# Altium schematic symbol library WR-PHD_Socket Header_2.54mm.SchLib: 187 symbols (part 2 of 4)
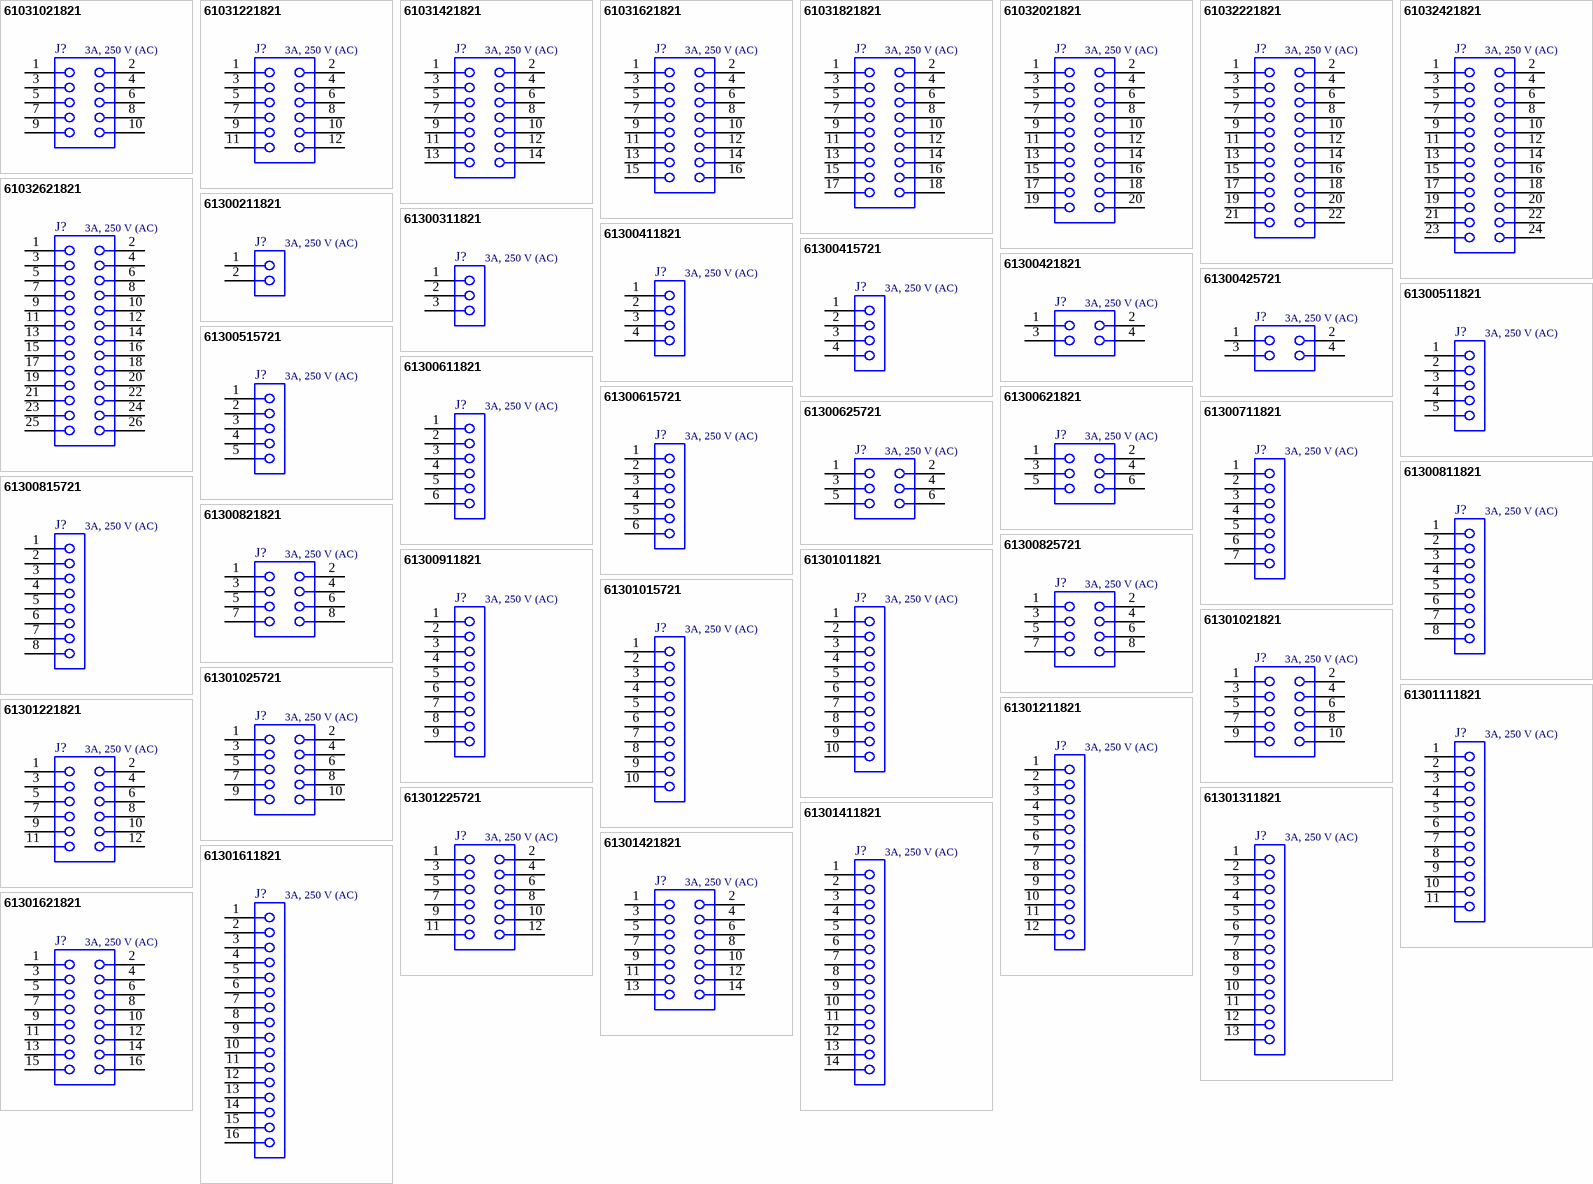
[diagram p6: symbols 61031021821 to 61301621821]

## 61300211821
designator J?, comment 3A, 250 V (AC)
WR-PHD Socket Header, THT, pitch 2.54mm, Single Row, Vertical, 2p; Manufacturer Part Number: 61300211821; Manufacturer: Wurth Elektronik; Pin Number: 2; Working Voltage: 250VAC; Withstanding Voltage: 500VAC; Contact Resistance: 20mOhm; ComponentLink1Description: Datasheet; ComponentLink1URL: https://www.we-online.com/catalog/datasheet/61300211821.pdf; Pitch: 2.54mm; Packaging: Tray; Gender: Socket Header; Rated Current: 3A; Row Number: Single; Orientation: Vertical; Supplier 1 URL: N/A; Supplier 2 URL: N/A; Supplier 3 URL: https://www.thegioiic.com/hang-rao-cai-don-2-54mm-2-chan-1-hang-cao-11-8mm-xuyen-lo; Mount: THT; Operating Temperature Max: + 85 C; Operating Temperature Min: - 25 C; Supplier 1: Mouser; Supplier 1 Part Number: N/A; Supplier 2: Digi-Key; Supplier 2 Part Number: N/A; Supplier 3: thegioiic; Supplier 3 Part Number: N/A; Value: 3A, 250 V (AC); LCSC Part #: N/A
footprint 61300211821
pins: 1, 2

## 61300311821
designator J?, comment 3A, 250 V (AC)
WR-PHD Socket Header, THT, pitch 2.54mm, Single Row, Vertical, 3p; Manufacturer Part Number: 61300311821; Manufacturer: Wurth Elektronik; Pin Number: 3; Working Voltage: 250VAC; Withstanding Voltage: 500VAC; Contact Resistance: 20mOhm; ComponentLink1Description: Datasheet; ComponentLink1URL: https://www.we-online.com/catalog/datasheet/61300311821.pdf; Pitch: 2.54mm; Packaging: Tray; Gender: Socket Header; Rated Current: 3A; Row Number: Single; Orientation: Vertical; Supplier 1 URL: N/A; Supplier 2 URL: N/A; Supplier 3 URL: https://www.thegioiic.com/hang-rao-cai-don-2-54mm-3-chan-1-hang-cao-11-8mm-xuyen-lo; Mount: THT; Operating Temperature Max: + 85 C; Operating Temperature Min: - 25 C; Supplier 1: Mouser; Supplier 1 Part Number: N/A; Supplier 2: Digi-Key; Supplier 2 Part Number: N/A; Supplier 3: thegioiic; Supplier 3 Part Number: N/A; Value: 3A, 250 V (AC); LCSC Part #: N/A
footprint 61300311821
pins: 1, 2, 3

## 61300411821
designator J?, comment 3A, 250 V (AC)
WR-PHD Socket Header, THT, pitch 2.54mm, Single Row, Vertical, 4p; Manufacturer Part Number: 61300411821; Manufacturer: Wurth Elektronik; Pin Number: 4; Working Voltage: 250VAC; Withstanding Voltage: 500VAC; Contact Resistance: 20mOhm; ComponentLink1Description: Datasheet; ComponentLink1URL: https://www.we-online.com/catalog/datasheet/61300411821.pdf; Pitch: 2.54mm; Packaging: Tray; Gender: Socket Header; Rated Current: 3A; Row Number: Single; Orientation: Vertical; Supplier 1 URL: https://www.mouser.vn/ProductDetail/Wurth-Elektronik/61300411821?qs=iLbezkQI%252BsgYrk24CGHgKQ%3D%3D; Supplier 2 URL: N/A; Supplier 3 URL: https://www.thegioiic.com/hang-rao-cai-don-2-54mm-4-chan-1-hang-cao-11-8mm-xuyen-lo; Mount: THT; Operating Temperature Max: + 85 C; Operating Temperature Min: - 25 C; Supplier 1: Mouser; Supplier 1 Part Number: 710-61300411821; Supplier 2: Digi-Key; Supplier 2 Part Number: N/A; Supplier 3: thegioiic; Supplier 3 Part Number: N/A; Value: 3A, 250 V (AC); LCSC Part #: N/A
footprint 61300411821
pins: 1, 2, 3, 4

## 61300415721
designator J?, comment 3A, 250 V (AC)
WR-PHD Socket Header, THT, pitch 2.54mm, Single Row, Vertical, 4p; Manufacturer Part Number: 61300415721; Manufacturer: Wurth Elektronik; Pin Number: 4; Working Voltage: 250VAC; Withstanding Voltage: 500VAC; Contact Resistance: 20mOhm; ComponentLink1Description: Datasheet; ComponentLink1URL: https://www.we-online.com/catalog/datasheet/61300415721.pdf; Pitch: 2.54mm; Packaging: Tube; Gender: Socket Header; Rated Current: 3A; Row Number: Single; Orientation: Vertical; Supplier 1 URL: N/A; Supplier 2 URL: N/A; Supplier 3 URL: N/A; Mount: THT; Operating Temperature Max: + 85 C; Operating Temperature Min: - 25 C; Supplier 1: Mouser; Supplier 1 Part Number: N/A; Supplier 2: Digi-Key; Supplier 2 Part Number: N/A; Supplier 3: thegioiic; Supplier 3 Part Number: N/A; Value: 3A, 250 V (AC); LCSC Part #: N/A
footprint 61300415721
pins: 1, 2, 3, 4

## 61300421821
designator J?, comment 3A, 250 V (AC)
WR-PHD Socket Header, THT, pitch 2.54mm, Dual Row, Vertical, 4p; Manufacturer Part Number: 61300421821; Manufacturer: Wurth Elektronik; Pin Number: 4; Working Voltage: 250VAC; Withstanding Voltage: 500VAC; Contact Resistance: 20mOhm; ComponentLink1Description: Datasheet; ComponentLink1URL: https://www.we-online.com/catalog/datasheet/61300421821.pdf; Pitch: 2.54mm; Packaging: Tray; Gender: Socket Header; Rated Current: 3A; Row Number: Dual; Orientation: Vertical; Supplier 1 URL: https://www.mouser.vn/ProductDetail/Wurth-Elektronik/61300421821?qs=iLbezkQI%252BsjdqRo43Fczjg%3D%3D; Supplier 2 URL: N/A; Supplier 3 URL: https://www.thegioiic.com/hang-rao-cai-doi-2-54mm-4-chan-2-hang-cao-11-8mm-xuyen-lo; Mount: THT; Operating Temperature Max: + 85 C; Operating Temperature Min: - 25 C; Supplier 1: Mouser; Supplier 1 Part Number: 710-61300421821; Supplier 2: Digi-Key; Supplier 2 Part Number: N/A; Supplier 3: thegioiic; Supplier 3 Part Number: N/A; Value: 3A, 250 V (AC); LCSC Part #: N/A
footprint 61300421821
pins: 1, 2, 3, 4

## 61300425721
designator J?, comment 3A, 250 V (AC)
WR-PHD Socket Header, THT, pitch 2.54mm, Dual Row, Vertical, 4p; Manufacturer Part Number: 61300425721; Manufacturer: Wurth Elektronik; Pin Number: 4; Working Voltage: 250VAC; Withstanding Voltage: 500VAC; Contact Resistance: 20mOhm; ComponentLink1Description: Datasheet; ComponentLink1URL: https://www.we-online.com/catalog/datasheet/61300425721.pdf; Pitch: 2.54mm; Packaging: Tube; Gender: Socket Header; Rated Current: 3A; Row Number: Dual; Orientation: Vertical; Supplier 1 URL: https://www.mouser.vn/ProductDetail/Wurth-Elektronik/61300421821?qs=iLbezkQI%252BsjdqRo43Fczjg%3D%3D; Supplier 2 URL: N/A; Supplier 3 URL: N/A; Mount: THT; Operating Temperature Max: + 85 C; Operating Temperature Min: - 25 C; Supplier 1: Mouser; Supplier 1 Part Number: 710-61300421821; Supplier 2: Digi-Key; Supplier 2 Part Number: N/A; Supplier 3: thegioiic; Supplier 3 Part Number: N/A; Value: 3A, 250 V (AC); LCSC Part #: N/A
footprint 61300425721
pins: 1, 2, 3, 4

## 61300511821
designator J?, comment 3A, 250 V (AC)
WR-PHD Socket Header, THT, pitch 2.54mm, Single Row, Vertical, 5p; Manufacturer Part Number: 61300511821; Manufacturer: Wurth Elektronik; Pin Number: 5; Working Voltage: 250VAC; Withstanding Voltage: 500VAC; Contact Resistance: 20mOhm; ComponentLink1Description: Datasheet; ComponentLink1URL: https://www.we-online.com/catalog/datasheet/61300511821.pdf; Pitch: 2.54mm; Packaging: Tray; Gender: Socket Header; Rated Current: 3A; Row Number: Single; Orientation: Vertical; Supplier 1 URL: https://www.mouser.vn/ProductDetail/Wurth-Elektronik/61300511821?qs=iLbezkQI%252BsjtLywwvTh3KA%3D%3D; Supplier 2 URL: N/A; Supplier 3 URL: https://www.thegioiic.com/hang-rao-cai-don-2-54mm-5-chan-1-hang-cao-11-8mm-xuyen-lo; Mount: THT; Operating Temperature Max: + 85 C; Operating Temperature Min: - 25 C; Supplier 1: Mouser; Supplier 1 Part Number: 710-61300511821; Supplier 2: Digi-Key; Supplier 2 Part Number: N/A; Supplier 3: thegioiic; Supplier 3 Part Number: N/A; Value: 3A, 250 V (AC); LCSC Part #: N/A
footprint 61300511821
pins: 1, 2, 3, 4, 5

## 61300515721
designator J?, comment 3A, 250 V (AC)
WR-PHD Socket Header, THT, pitch 2.54mm, Single Row, Vertical, 5p; Manufacturer Part Number: 61300515721; Manufacturer: Wurth Elektronik; Pin Number: 5; Working Voltage: 250VAC; Withstanding Voltage: 500VAC; Contact Resistance: 20mOhm; ComponentLink1Description: Datasheet; ComponentLink1URL: https://www.we-online.com/catalog/datasheet/61300515721.pdf; Pitch: 2.54mm; Packaging: Tube; Gender: Socket Header; Rated Current: 3A; Row Number: Single; Orientation: Vertical; Supplier 1 URL: N/A; Supplier 2 URL: N/A; Supplier 3 URL: N/A; Mount: THT; Operating Temperature Max: + 85 C; Operating Temperature Min: - 25 C; Supplier 1: Mouser; Supplier 1 Part Number: N/A; Supplier 2: Digi-Key; Supplier 2 Part Number: N/A; Supplier 3: thegioiic; Supplier 3 Part Number: N/A; Value: 3A, 250 V (AC); LCSC Part #: N/A
footprint 61300515721
pins: 1, 2, 3, 4, 5

## 61300611821
designator J?, comment 3A, 250 V (AC)
WR-PHD Socket Header, THT, pitch 2.54mm, Single Row, Vertical, 6p; Manufacturer Part Number: 61300611821; Manufacturer: Wurth Elektronik; Pin Number: 6; Working Voltage: 250VAC; Withstanding Voltage: 500VAC; Contact Resistance: 20mOhm; ComponentLink1Description: Datasheet; ComponentLink1URL: https://www.we-online.com/catalog/datasheet/61300611821.pdf; Pitch: 2.54mm; Packaging: Tray; Gender: Socket Header; Rated Current: 3A; Row Number: Single; Orientation: Vertical; Supplier 1 URL: https://www.mouser.vn/ProductDetail/Wurth-Elektronik/61300611821?qs=iLbezkQI%252BsgS21jF2eozhA%3D%3D; Supplier 2 URL: N/A; Supplier 3 URL: https://www.thegioiic.com/hang-rao-cai-don-2-54mm-6-chan-1-hang-cao-11-8mm-xuyen-lo; Mount: THT; Operating Temperature Max: + 85 C; Operating Temperature Min: - 25 C; Supplier 1: Mouser; Supplier 1 Part Number: 710-61300611821; Supplier 2: Digi-Key; Supplier 2 Part Number: N/A; Supplier 3: thegioiic; Supplier 3 Part Number: N/A; Value: 3A, 250 V (AC); LCSC Part #: N/A
footprint 61300611821
pins: 1, 2, 3, 4, 5, 6

## 61300615721
designator J?, comment 3A, 250 V (AC)
WR-PHD Socket Header, THT, pitch 2.54mm, Single Row, Vertical, 6p; Manufacturer Part Number: 61300615721; Manufacturer: Wurth Elektronik; Pin Number: 6; Working Voltage: 250VAC; Withstanding Voltage: 500VAC; Contact Resistance: 20mOhm; ComponentLink1Description: Datasheet; ComponentLink1URL: https://www.we-online.com/catalog/datasheet/61300615721.pdf; Pitch: 2.54mm; Packaging: Tube; Gender: Socket Header; Rated Current: 3A; Row Number: Single; Orientation: Vertical; Supplier 1 URL: N/A; Supplier 2 URL: N/A; Supplier 3 URL: N/A; Mount: THT; Operating Temperature Max: + 85 C; Operating Temperature Min: - 25 C; Supplier 1: Mouser; Supplier 1 Part Number: N/A; Supplier 2: Digi-Key; Supplier 2 Part Number: N/A; Supplier 3: thegioiic; Supplier 3 Part Number: N/A; Value: 3A, 250 V (AC); LCSC Part #: N/A
footprint 61300615721
pins: 1, 2, 3, 4, 5, 6

## 61300621821
designator J?, comment 3A, 250 V (AC)
WR-PHD Socket Header, THT, pitch 2.54mm, Dual Row, Vertical, 6p; Manufacturer Part Number: 61300621821; Manufacturer: Wurth Elektronik; Pin Number: 6; Working Voltage: 250VAC; Withstanding Voltage: 500VAC; Contact Resistance: 20mOhm; ComponentLink1Description: Datasheet; ComponentLink1URL: https://www.we-online.com/catalog/datasheet/61300621821.pdf; Pitch: 2.54mm; Packaging: Tray; Gender: Socket Header; Rated Current: 3A; Row Number: Dual; Orientation: Vertical; Supplier 1 URL: N/A; Supplier 2 URL: N/A; Supplier 3 URL: https://www.thegioiic.com/hang-rao-cai-doi-2-54mm-6-chan-2-hang-cao-11-8mm-xuyen-lo; Mount: THT; Operating Temperature Max: + 85 C; Operating Temperature Min: - 25 C; Supplier 1: Mouser; Supplier 1 Part Number: N/A; Supplier 2: Digi-Key; Supplier 2 Part Number: N/A; Supplier 3: thegioiic; Supplier 3 Part Number: N/A; Value: 3A, 250 V (AC); LCSC Part #: N/A
footprint 61300621821
pins: 1, 2, 3, 4, 5, 6

## 61300625721
designator J?, comment 3A, 250 V (AC)
WR-PHD Socket Header, THT, pitch 2.54mm, Dual Row, Vertical, 6p; Manufacturer Part Number: 61300625721; Manufacturer: Wurth Elektronik; Pin Number: 6; Working Voltage: 250VAC; Withstanding Voltage: 500VAC; Contact Resistance: 20mOhm; ComponentLink1Description: Datasheet; ComponentLink1URL: https://www.we-online.com/catalog/datasheet/61300625721.pdf; Pitch: 2.54mm; Packaging: Tube; Gender: Socket Header; Rated Current: 3A; Row Number: Dual; Orientation: Vertical; Supplier 1 URL: N/A; Supplier 2 URL: N/A; Supplier 3 URL: N/A; Mount: THT; Operating Temperature Max: + 85 C; Operating Temperature Min: - 25 C; Supplier 1: Mouser; Supplier 1 Part Number: N/A; Supplier 2: Digi-Key; Supplier 2 Part Number: N/A; Supplier 3: thegioiic; Supplier 3 Part Number: N/A; Value: 3A, 250 V (AC); LCSC Part #: N/A
footprint 61300625721
pins: 1, 2, 3, 4, 5, 6

## 61300711821
designator J?, comment 3A, 250 V (AC)
WR-PHD Socket Header, THT, pitch 2.54mm, Single Row, Vertical, 7p; Manufacturer Part Number: 61300711821; Manufacturer: Wurth Elektronik; Pin Number: 7; Working Voltage: 250VAC; Withstanding Voltage: 500VAC; Contact Resistance: 20mOhm; ComponentLink1Description: Datasheet; ComponentLink1URL: https://www.we-online.com/catalog/datasheet/61300711821.pdf; Pitch: 2.54mm; Packaging: Tray; Gender: Socket Header; Rated Current: 3A; Row Number: Single; Orientation: Vertical; Supplier 1 URL: N/A; Supplier 2 URL: N/A; Supplier 3 URL: N/A; Mount: THT; Operating Temperature Max: + 85 C; Operating Temperature Min: - 25 C; Supplier 1: Mouser; Supplier 1 Part Number: N/A; Supplier 2: Digi-Key; Supplier 2 Part Number: N/A; Supplier 3: thegioiic; Supplier 3 Part Number: N/A; Value: 3A, 250 V (AC); LCSC Part #: N/A
footprint 61300711821
pins: 1, 2, 3, 4, 5, 6, 7

## 61300811821
designator J?, comment 3A, 250 V (AC)
WR-PHD Socket Header, THT, pitch 2.54mm, Single Row, Vertical, 8p; Manufacturer Part Number: 61300811821; Manufacturer: Wurth Elektronik; Pin Number: 8; Working Voltage: 250VAC; Withstanding Voltage: 500VAC; Contact Resistance: 20mOhm; ComponentLink1Description: Datasheet; ComponentLink1URL: https://www.we-online.com/catalog/datasheet/61300811821.pdf; Pitch: 2.54mm; Packaging: Tray; Gender: Socket Header; Rated Current: 3A; Row Number: Single; Orientation: Vertical; Supplier 1 URL: https://www.mouser.vn/ProductDetail/Wurth-Elektronik/61300811821?qs=ulEaXIWI0c%252BOxrSqc7jVmQ%3D%3D; Supplier 2 URL: N/A; Supplier 3 URL: https://www.thegioiic.com/hang-rao-cai-don-2-54mm-8-chan-1-hang-cao-11-8mm-xuyen-lo; Mount: THT; Operating Temperature Max: + 85 C; Operating Temperature Min: - 25 C; Supplier 1: Mouser; Supplier 1 Part Number: 710-61300811821; Supplier 2: Digi-Key; Supplier 2 Part Number: N/A; Supplier 3: thegioiic; Supplier 3 Part Number: N/A; Value: 3A, 250 V (AC); LCSC Part #: N/A
footprint 61300811821
pins: 1, 2, 3, 4, 5, 6, 7, 8

## 61300815721
designator J?, comment 3A, 250 V (AC)
WR-PHD Socket Header, THT, pitch 2.54mm, Single Row, Vertical, 8p; Manufacturer Part Number: 61300815721; Manufacturer: Wurth Elektronik; Pin Number: 8; Working Voltage: 250VAC; Withstanding Voltage: 500VAC; Contact Resistance: 20mOhm; ComponentLink1Description: Datasheet; ComponentLink1URL: https://www.we-online.com/catalog/datasheet/61300815721.pdf; Pitch: 2.54mm; Packaging: Tube; Gender: Socket Header; Rated Current: 3A; Row Number: Single; Orientation: Vertical; Supplier 1 URL: N/A; Supplier 2 URL: N/A; Supplier 3 URL: N/A; Mount: THT; Operating Temperature Max: + 85 C; Operating Temperature Min: - 25 C; Supplier 1: Mouser; Supplier 1 Part Number: N/A; Supplier 2: Digi-Key; Supplier 2 Part Number: N/A; Supplier 3: thegioiic; Supplier 3 Part Number: N/A; Value: 3A, 250 V (AC); LCSC Part #: N/A
footprint 61300815721
pins: 1, 2, 3, 4, 5, 6, 7, 8

## 61300821821
designator J?, comment 3A, 250 V (AC)
WR-PHD Socket Header, THT, pitch 2.54mm, Dual Row, Vertical, 8p; Manufacturer Part Number: 61300821821; Manufacturer: Wurth Elektronik; Pin Number: 8; Working Voltage: 250VAC; Withstanding Voltage: 500VAC; Contact Resistance: 20mOhm; ComponentLink1Description: Datasheet; ComponentLink1URL: https://www.we-online.com/catalog/datasheet/61300821821.pdf; Pitch: 2.54mm; Packaging: Tray; Gender: Socket Header; Rated Current: 3A; Row Number: Dual; Orientation: Vertical; Supplier 1 URL: https://www.mouser.vn/ProductDetail/Wurth-Elektronik/61300821821?qs=iLbezkQI%252BshycHY3p31Znw%3D%3D; Supplier 2 URL: N/A; Supplier 3 URL: https://www.thegioiic.com/hang-rao-cai-doi-2-54mm-8-chan-2-hang-cao-11-8mm-xuyen-lo; Mount: THT; Operating Temperature Max: + 85 C; Operating Temperature Min: - 25 C; Supplier 1: Mouser; Supplier 1 Part Number: 710-61300821821; Supplier 2: Digi-Key; Supplier 2 Part Number: N/A; Supplier 3: thegioiic; Supplier 3 Part Number: N/A; Value: 3A, 250 V (AC); LCSC Part #: N/A
footprint 61300821821
pins: 1, 2, 3, 4, 5, 6, 7, 8

## 61300825721
designator J?, comment 3A, 250 V (AC)
WR-PHD Socket Header, THT, pitch 2.54mm, Dual Row, Vertical, 8p; Manufacturer Part Number: 61300825721; Manufacturer: Wurth Elektronik; Pin Number: 8; Working Voltage: 250VAC; Withstanding Voltage: 500VAC; Contact Resistance: 20mOhm; ComponentLink1Description: Datasheet; ComponentLink1URL: https://www.we-online.com/catalog/datasheet/61300825721.pdf; Pitch: 2.54mm; Packaging: Tube; Gender: Socket Header; Rated Current: 3A; Row Number: Dual; Orientation: Vertical; Supplier 1 URL: N/A; Supplier 2 URL: N/A; Supplier 3 URL: N/A; Mount: THT; Operating Temperature Max: + 85 C; Operating Temperature Min: - 25 C; Supplier 1: Mouser; Supplier 1 Part Number: N/A; Supplier 2: Digi-Key; Supplier 2 Part Number: N/A; Supplier 3: thegioiic; Supplier 3 Part Number: N/A; Value: 3A, 250 V (AC); LCSC Part #: N/A
footprint 61300825721
pins: 1, 2, 3, 4, 5, 6, 7, 8

## 61300911821
designator J?, comment 3A, 250 V (AC)
WR-PHD Socket Header, THT, pitch 2.54mm, Single Row, Vertical, 9p; Manufacturer Part Number: 61300911821; Manufacturer: Wurth Elektronik; Pin Number: 9; Working Voltage: 250VAC; Withstanding Voltage: 500VAC; Contact Resistance: 20mOhm; ComponentLink1Description: Datasheet; ComponentLink1URL: https://www.we-online.com/catalog/datasheet/61300911821.pdf; Pitch: 2.54mm; Packaging: Tray; Gender: Socket Header; Rated Current: 3A; Row Number: Single; Orientation: Vertical; Supplier 1 URL: N/A; Supplier 2 URL: N/A; Supplier 3 URL: N/A; Mount: THT; Operating Temperature Max: + 85 C; Operating Temperature Min: - 25 C; Supplier 1: Mouser; Supplier 1 Part Number: N/A; Supplier 2: Digi-Key; Supplier 2 Part Number: N/A; Supplier 3: thegioiic; Supplier 3 Part Number: N/A; Value: 3A, 250 V (AC); LCSC Part #: N/A
footprint 61300911821
pins: 1, 2, 3, 4, 5, 6, 7, 8, 9

## 61301011821
designator J?, comment 3A, 250 V (AC)
WR-PHD Socket Header, THT, pitch 2.54mm, Single Row, Vertical, 10p; Manufacturer Part Number: 61301011821; Manufacturer: Wurth Elektronik; Pin Number: 10; Working Voltage: 250VAC; Withstanding Voltage: 500VAC; Contact Resistance: 20mOhm; ComponentLink1Description: Datasheet; ComponentLink1URL: https://www.we-online.com/catalog/datasheet/61301011821.pdf; Pitch: 2.54mm; Packaging: Tray; Gender: Socket Header; Rated Current: 3A; Row Number: Single; Orientation: Vertical; Supplier 1 URL: https://www.mouser.vn/ProductDetail/Wurth-Elektronik/61301011821?qs=W%252B2sBeLta1ZhlLR0YCzonQ%3D%3D; Supplier 2 URL: N/A; Supplier 3 URL: https://www.thegioiic.com/products?search=H%C3%A0ng%20R%C3%A0o%20C%C3%A1i%202.54mm&page=3; Mount: THT; Operating Temperature Max: + 85 C; Operating Temperature Min: - 25 C; Supplier 1: Mouser; Supplier 1 Part Number: 710-61301011821; Supplier 2: Digi-Key; Supplier 2 Part Number: N/A; Supplier 3: thegioiic; Supplier 3 Part Number: N/A; Value: 3A, 250 V (AC); LCSC Part #: N/A
footprint 61301011821
pins: 1, 2, 3, 4, 5, 6, 7, 8, 9, 10

## 61301015721
designator J?, comment 3A, 250 V (AC)
WR-PHD Socket Header, THT, pitch 2.54mm, Single Row, Vertical, 10p; Manufacturer Part Number: 61301015721; Manufacturer: Wurth Elektronik; Pin Number: 10; Working Voltage: 250VAC; Withstanding Voltage: 500VAC; Contact Resistance: 20mOhm; ComponentLink1Description: Datasheet; ComponentLink1URL: https://www.we-online.com/catalog/datasheet/61301015721.pdf; Pitch: 2.54mm; Packaging: Tube; Gender: Socket Header; Rated Current: 3A; Row Number: Single; Orientation: Vertical; Supplier 1 URL: N/A; Supplier 2 URL: N/A; Supplier 3 URL: N/A; Mount: THT; Operating Temperature Max: + 85 C; Operating Temperature Min: - 25 C; Supplier 1: Mouser; Supplier 1 Part Number: N/A; Supplier 2: Digi-Key; Supplier 2 Part Number: N/A; Supplier 3: thegioiic; Supplier 3 Part Number: N/A; Value: 3A, 250 V (AC); LCSC Part #: N/A
footprint 61301015721
pins: 1, 2, 3, 4, 5, 6, 7, 8, 9, 10

## 61301021821
designator J?, comment 3A, 250 V (AC)
WR-PHD Socket Header, THT, pitch 2.54mm, Dual Row, Vertical, 10p; Manufacturer Part Number: 61301021821; Manufacturer: Wurth Elektronik; Pin Number: 10; Working Voltage: 250VAC; Withstanding Voltage: 500VAC; Contact Resistance: 20mOhm; ComponentLink1Description: Datasheet; ComponentLink1URL: https://www.we-online.com/catalog/datasheet/61301021821.pdf; Pitch: 2.54mm; Packaging: Tray; Gender: Socket Header; Rated Current: 3A; Row Number: Dual; Orientation: Vertical; Supplier 1 URL: https://www.mouser.vn/ProductDetail/Wurth-Elektronik/61301021821?qs=W%252B2sBeLta1YA5oaKnMERsA%3D%3D; Supplier 2 URL: N/A; Supplier 3 URL: https://www.thegioiic.com/hang-rao-cai-doi-2-54mm-10-chan-2-hang-cao-11-8mm-xuyen-lo; Mount: THT; Operating Temperature Max: + 85 C; Operating Temperature Min: - 25 C; Supplier 1: Mouser; Supplier 1 Part Number: 710-61301021821; Supplier 2: Digi-Key; Supplier 2 Part Number: N/A; Supplier 3: thegioiic; Supplier 3 Part Number: N/A; Value: 3A, 250 V (AC); LCSC Part #: N/A
footprint 61301021821
pins: 1, 2, 3, 4, 5, 6, 7, 8, 9, 10

## 61301025721
designator J?, comment 3A, 250 V (AC)
WR-PHD Socket Header, THT, pitch 2.54mm, Dual Row, Vertical, 10p; Manufacturer Part Number: 61301025721; Manufacturer: Wurth Elektronik; Pin Number: 10; Working Voltage: 250VAC; Withstanding Voltage: 500VAC; Contact Resistance: 20mOhm; ComponentLink1Description: Datasheet; ComponentLink1URL: https://www.we-online.com/catalog/datasheet/61301025721.pdf; Pitch: 2.54mm; Packaging: Tube; Gender: Socket Header; Rated Current: 3A; Row Number: Dual; Orientation: Vertical; Supplier 1 URL: N/A; Supplier 2 URL: N/A; Supplier 3 URL: N/A; Mount: THT; Operating Temperature Max: + 85 C; Operating Temperature Min: - 25 C; Supplier 1: Mouser; Supplier 1 Part Number: N/A; Supplier 2: Digi-Key; Supplier 2 Part Number: N/A; Supplier 3: thegioiic; Supplier 3 Part Number: N/A; Value: 3A, 250 V (AC); LCSC Part #: N/A
footprint 61301025721
pins: 1, 2, 3, 4, 5, 6, 7, 8, 9, 10

## 61301111821
designator J?, comment 3A, 250 V (AC)
WR-PHD Socket Header, THT, pitch 2.54mm, Single Row, Vertical, 11p; Manufacturer Part Number: 61301111821; Manufacturer: Wurth Elektronik; Pin Number: 11; Working Voltage: 250VAC; Withstanding Voltage: 500VAC; Contact Resistance: 20mOhm; ComponentLink1Description: Datasheet; ComponentLink1URL: https://www.we-online.com/catalog/datasheet/61301111821.pdf; Pitch: 2.54mm; Packaging: Tray; Gender: Socket Header; Rated Current: 3A; Row Number: Single; Orientation: Vertical; Supplier 1 URL: N/A; Supplier 2 URL: N/A; Supplier 3 URL: N/A; Mount: THT; Operating Temperature Max: + 85 C; Operating Temperature Min: - 25 C; Supplier 1: Mouser; Supplier 1 Part Number: N/A; Supplier 2: Digi-Key; Supplier 2 Part Number: N/A; Supplier 3: thegioiic; Supplier 3 Part Number: N/A; Value: 3A, 250 V (AC); LCSC Part #: N/A
footprint 61301111821
pins: 1, 2, 3, 4, 5, 6, 7, 8, 9, 10, 11

## 61301211821
designator J?, comment 3A, 250 V (AC)
WR-PHD Socket Header, THT, pitch 2.54mm, Single Row, Vertical, 12p; Manufacturer Part Number: 61301211821; Manufacturer: Wurth Elektronik; Pin Number: 12; Working Voltage: 250VAC; Withstanding Voltage: 500VAC; Contact Resistance: 20mOhm; ComponentLink1Description: Datasheet; ComponentLink1URL: https://www.we-online.com/catalog/datasheet/61301211821.pdf; Pitch: 2.54mm; Packaging: Tray; Gender: Socket Header; Rated Current: 3A; Row Number: Single; Orientation: Vertical; Supplier 1 URL: https://www.mouser.vn/ProductDetail/Wurth-Elektronik/61301211821?qs=iLbezkQI%252Bsikw6kdwUEUwg%3D%3D; Supplier 2 URL: N/A; Supplier 3 URL: https://www.thegioiic.com/hang-rao-cai-don-2-54mm-12-chan-1-hang-cao-11-8mm-xuyen-lo; Mount: THT; Operating Temperature Max: + 85 C; Operating Temperature Min: - 25 C; Supplier 1: Mouser; Supplier 1 Part Number: 710-61301211821; Supplier 2: Digi-Key; Supplier 2 Part Number: N/A; Supplier 3: thegioiic; Supplier 3 Part Number: N/A; Value: 3A, 250 V (AC); LCSC Part #: N/A
footprint 61301211821
pins: 1, 2, 3, 4, 5, 6, 7, 8, 9, 10, 11, 12

## 61301221821
designator J?, comment 3A, 250 V (AC)
WR-PHD Socket Header, THT, pitch 2.54mm, Dual Row, Vertical, 12p; Manufacturer Part Number: 61301221821; Manufacturer: Wurth Elektronik; Pin Number: 12; Working Voltage: 250VAC; Withstanding Voltage: 500VAC; Contact Resistance: 20mOhm; ComponentLink1Description: Datasheet; ComponentLink1URL: https://www.we-online.com/catalog/datasheet/61301221821.pdf; Pitch: 2.54mm; Packaging: Tray; Gender: Socket Header; Rated Current: 3A; Row Number: Dual; Orientation: Vertical; Supplier 1 URL: N/A; Supplier 2 URL: N/A; Supplier 3 URL: https://www.thegioiic.com/hang-rao-cai-doi-2-54mm-12-chan-2-hang-cao-11-8mm-xuyen-lo; Mount: THT; Operating Temperature Max: + 85 C; Operating Temperature Min: - 25 C; Supplier 1: Mouser; Supplier 1 Part Number: N/A; Supplier 2: Digi-Key; Supplier 2 Part Number: N/A; Supplier 3: thegioiic; Supplier 3 Part Number: N/A; Value: 3A, 250 V (AC); LCSC Part #: N/A
footprint 61301221821
pins: 1, 2, 3, 4, 5, 6, 7, 8, 9, 10, 11, 12

## 61301225721
designator J?, comment 3A, 250 V (AC)
WR-PHD Socket Header, THT, pitch 2.54mm, Dual Row, Vertical, 12p; Manufacturer Part Number: 61301225721; Manufacturer: Wurth Elektronik; Pin Number: 12; Working Voltage: 250VAC; Withstanding Voltage: 500VAC; Contact Resistance: 20mOhm; ComponentLink1Description: Datasheet; ComponentLink1URL: https://www.we-online.com/catalog/datasheet/61301225721.pdf; Pitch: 2.54mm; Packaging: Tube; Gender: Socket Header; Rated Current: 3A; Row Number: Dual; Orientation: Vertical; Supplier 1 URL: N/A; Supplier 2 URL: N/A; Supplier 3 URL: N/A; Mount: THT; Operating Temperature Max: + 85 C; Operating Temperature Min: - 25 C; Supplier 1: Mouser; Supplier 1 Part Number: N/A; Supplier 2: Digi-Key; Supplier 2 Part Number: N/A; Supplier 3: thegioiic; Supplier 3 Part Number: N/A; Value: 3A, 250 V (AC); LCSC Part #: N/A
footprint 61301225721
pins: 1, 2, 3, 4, 5, 6, 7, 8, 9, 10, 11, 12

## 61301311821
designator J?, comment 3A, 250 V (AC)
WR-PHD Socket Header, THT, pitch 2.54mm, Single Row, Vertical, 13p; Manufacturer Part Number: 61301311821; Manufacturer: Wurth Elektronik; Pin Number: 13; Working Voltage: 250VAC; Withstanding Voltage: 500VAC; Contact Resistance: 20mOhm; ComponentLink1Description: Datasheet; ComponentLink1URL: https://www.we-online.com/catalog/datasheet/61301311821.pdf; Pitch: 2.54mm; Packaging: Tray; Gender: Socket Header; Rated Current: 3A; Row Number: Single; Orientation: Vertical; Supplier 1 URL: N/A; Supplier 2 URL: N/A; Supplier 3 URL: N/A; Mount: THT; Operating Temperature Max: + 85 C; Operating Temperature Min: - 25 C; Supplier 1: Mouser; Supplier 1 Part Number: N/A; Supplier 2: Digi-Key; Supplier 2 Part Number: N/A; Supplier 3: thegioiic; Supplier 3 Part Number: N/A; Value: 3A, 250 V (AC); LCSC Part #: N/A
footprint 61301311821
pins: 1, 2, 3, 4, 5, 6, 7, 8, 9, 10, 11, 12, 13

## 61301411821
designator J?, comment 3A, 250 V (AC)
WR-PHD Socket Header, THT, pitch 2.54mm, Single Row, Vertical, 14p; Manufacturer Part Number: 61301411821; Manufacturer: Wurth Elektronik; Pin Number: 14; Working Voltage: 250VAC; Withstanding Voltage: 500VAC; Contact Resistance: 20mOhm; ComponentLink1Description: Datasheet; ComponentLink1URL: https://www.we-online.com/catalog/datasheet/61301411821.pdf; Pitch: 2.54mm; Packaging: Tray; Gender: Socket Header; Rated Current: 3A; Row Number: Single; Orientation: Vertical; Supplier 1 URL: N/A; Supplier 2 URL: N/A; Supplier 3 URL: https://www.thegioiic.com/hang-rao-cai-don-2-54mm-14-chan-1-hang-cao-11-8mm-xuyen-lo; Mount: THT; Operating Temperature Max: + 85 C; Operating Temperature Min: - 25 C; Supplier 1: Mouser; Supplier 1 Part Number: N/A; Supplier 2: Digi-Key; Supplier 2 Part Number: N/A; Supplier 3: thegioiic; Supplier 3 Part Number: N/A; Value: 3A, 250 V (AC); LCSC Part #: N/A
footprint 61301411821
pins: 1, 2, 3, 4, 5, 6, 7, 8, 9, 10, 11, 12, 13, 14

## 61301421821
designator J?, comment 3A, 250 V (AC)
WR-PHD Socket Header, THT, pitch 2.54mm, Dual Row, Vertical, 14p; Manufacturer Part Number: 61301421821; Manufacturer: Wurth Elektronik; Pin Number: 14; Working Voltage: 250VAC; Withstanding Voltage: 500VAC; Contact Resistance: 20mOhm; ComponentLink1Description: Datasheet; ComponentLink1URL: https://www.we-online.com/catalog/datasheet/61301421821.pdf; Pitch: 2.54mm; Packaging: Tray; Gender: Socket Header; Rated Current: 3A; Row Number: Dual; Orientation: Vertical; Supplier 1 URL: https://www.mouser.vn/ProductDetail/Wurth-Elektronik/61301421821?qs=iLbezkQI%252Bsi%252BdVj8CHw1ww%3D%3D; Supplier 2 URL: N/A; Supplier 3 URL: https://www.thegioiic.com/hang-rao-cai-doi-2-54mm-14-chan-2-hang-cao-11-8mm-xuyen-lo; Mount: THT; Operating Temperature Max: + 85 C; Operating Temperature Min: - 25 C; Supplier 1: Mouser; Supplier 1 Part Number: 710-61301421821; Supplier 2: Digi-Key; Supplier 2 Part Number: N/A; Supplier 3: thegioiic; Supplier 3 Part Number: N/A; Value: 3A, 250 V (AC); LCSC Part #: N/A
footprint 61301421821
pins: 1, 2, 3, 4, 5, 6, 7, 8, 9, 10, 11, 12, 13, 14

## 61301611821
designator J?, comment 3A, 250 V (AC)
WR-PHD Socket Header, THT, pitch 2.54mm, Single Row, Vertical, 16p; Manufacturer Part Number: 61301611821; Manufacturer: Wurth Elektronik; Pin Number: 16; Working Voltage: 250VAC; Withstanding Voltage: 500VAC; Contact Resistance: 20mOhm; ComponentLink1Description: Datasheet; ComponentLink1URL: https://www.we-online.com/catalog/datasheet/61301611821.pdf; Pitch: 2.54mm; Packaging: Tray; Gender: Socket Header; Rated Current: 3A; Row Number: Single; Orientation: Vertical; Supplier 1 URL: https://www.mouser.vn/ProductDetail/Wurth-Elektronik/61301611821?qs=xZ%2FP%252Ba9zWqYIxo6RU%252B1Wuw%3D%3D; Supplier 2 URL: N/A; Supplier 3 URL: https://www.thegioiic.com/hang-rao-cai-don-2-54mm-16-chan-1-hang-cao-11-8mm-xuyen-lo; Mount: THT; Operating Temperature Max: + 85 C; Operating Temperature Min: - 25 C; Supplier 1: Mouser; Supplier 1 Part Number: 710-61301611821; Supplier 2: Digi-Key; Supplier 2 Part Number: N/A; Supplier 3: thegioiic; Supplier 3 Part Number: N/A; Value: 3A, 250 V (AC); LCSC Part #: N/A
footprint 61301611821
pins: 1, 2, 3, 4, 5, 6, 7, 8, 9, 10, 11, 12, 13, 14, 15, 16

## 61301621821
designator J?, comment 3A, 250 V (AC)
WR-PHD Socket Header, THT, pitch 2.54mm, Dual Row, Vertical, 16p; Manufacturer Part Number: 61301621821; Manufacturer: Wurth Elektronik; Pin Number: 16; Working Voltage: 250VAC; Withstanding Voltage: 500VAC; Contact Resistance: 20mOhm; ComponentLink1Description: Datasheet; ComponentLink1URL: https://www.we-online.com/catalog/datasheet/61301621821.pdf; Pitch: 2.54mm; Packaging: Tray; Gender: Socket Header; Rated Current: 3A; Row Number: Dual; Orientation: Vertical; Supplier 1 URL: https://www.mouser.vn/ProductDetail/Wurth-Elektronik/61301621821?qs=GedFDFLaBXGpn7FxmOhVBw%3D%3D; Supplier 2 URL: N/A; Supplier 3 URL: https://www.thegioiic.com/hang-rao-cai-doi-2-54mm-16-chan-2-hang-cao-11-8mm-xuyen-lo; Mount: THT; Operating Temperature Max: + 85 C; Operating Temperature Min: - 25 C; Supplier 1: Mouser; Supplier 1 Part Number: 710-61301621821; Supplier 2: Digi-Key; Supplier 2 Part Number: N/A; Supplier 3: thegioiic; Supplier 3 Part Number: N/A; Value: 3A, 250 V (AC); LCSC Part #: N/A
footprint 61301621821
pins: 1, 2, 3, 4, 5, 6, 7, 8, 9, 10, 11, 12, 13, 14, 15, 16

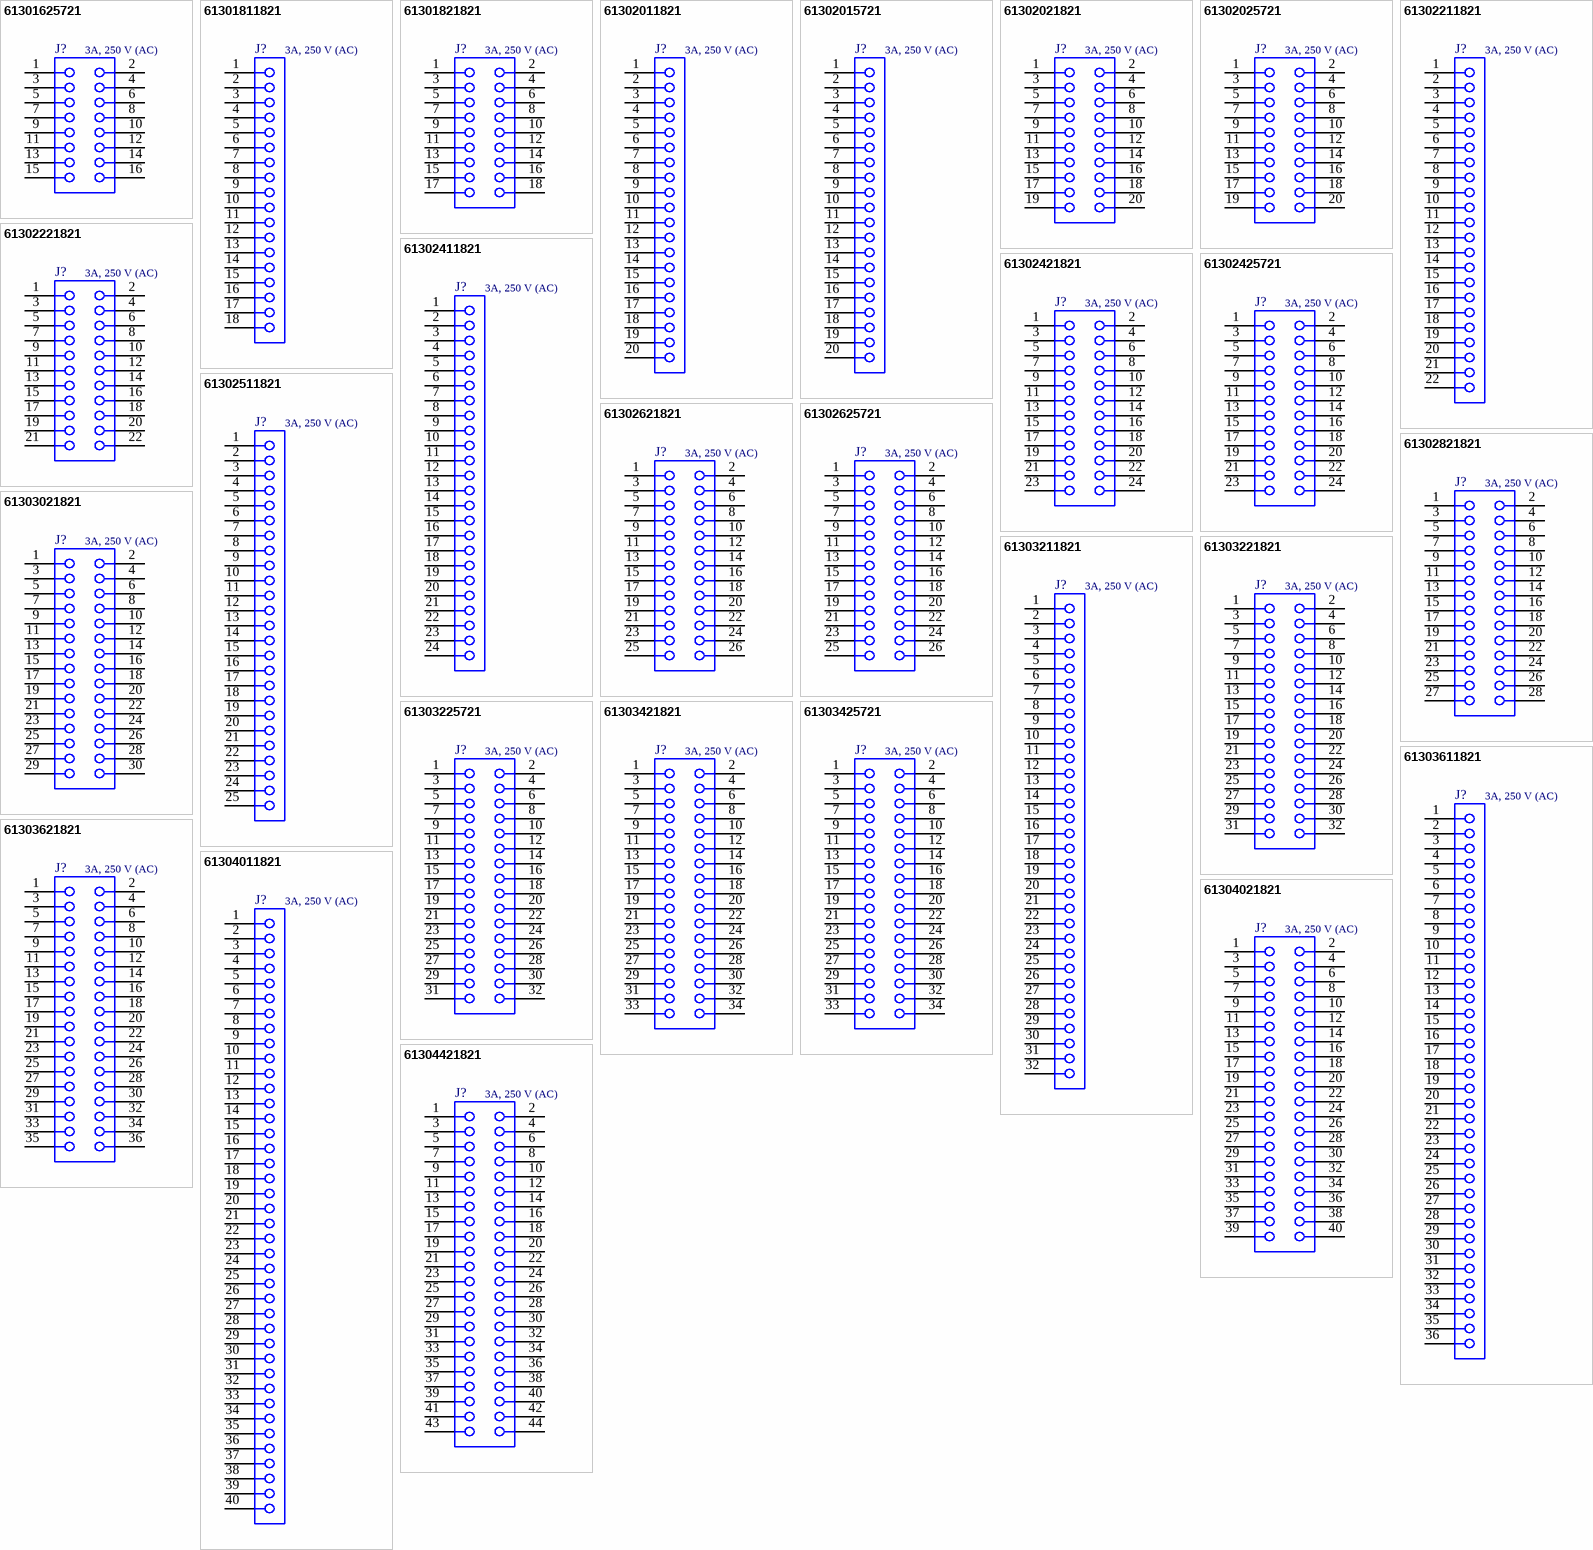
[diagram p2: symbols 61301625721 to 61304421821]

## 61301625721
designator J?, comment 3A, 250 V (AC)
WR-PHD Socket Header, THT, pitch 2.54mm, Dual Row, Vertical, 16p; Manufacturer Part Number: 61301625721; Manufacturer: Wurth Elektronik; Pin Number: 16; Working Voltage: 250VAC; Withstanding Voltage: 500VAC; Contact Resistance: 20mOhm; ComponentLink1Description: Datasheet; ComponentLink1URL: https://www.we-online.com/catalog/datasheet/61301625721.pdf; Pitch: 2.54mm; Packaging: Tube; Gender: Socket Header; Rated Current: 3A; Row Number: Dual; Orientation: Vertical; Supplier 1 URL: N/A; Supplier 2 URL: N/A; Supplier 3 URL: N/A; Mount: THT; Operating Temperature Max: + 85 C; Operating Temperature Min: - 25 C; Supplier 1: Mouser; Supplier 1 Part Number: N/A; Supplier 2: Digi-Key; Supplier 2 Part Number: N/A; Supplier 3: thegioiic; Supplier 3 Part Number: N/A; Value: 3A, 250 V (AC); LCSC Part #: N/A
footprint 61301625721
pins: 1, 2, 3, 4, 5, 6, 7, 8, 9, 10, 11, 12, 13, 14, 15, 16

## 61301811821
designator J?, comment 3A, 250 V (AC)
WR-PHD Socket Header, THT, pitch 2.54mm, Single Row, Vertical, 18p; Manufacturer Part Number: 61301811821; Manufacturer: Wurth Elektronik; Pin Number: 18; Working Voltage: 250VAC; Withstanding Voltage: 500VAC; Contact Resistance: 20mOhm; ComponentLink1Description: Datasheet; ComponentLink1URL: https://www.we-online.com/catalog/datasheet/61301811821.pdf; Pitch: 2.54mm; Packaging: Tray; Gender: Socket Header; Rated Current: 3A; Row Number: Single; Orientation: Vertical; Supplier 1 URL: N/A; Supplier 2 URL: N/A; Supplier 3 URL: N/A; Mount: THT; Operating Temperature Max: + 85 C; Operating Temperature Min: - 25 C; Supplier 1: Mouser; Supplier 1 Part Number: N/A; Supplier 2: Digi-Key; Supplier 2 Part Number: N/A; Supplier 3: thegioiic; Supplier 3 Part Number: N/A; Value: 3A, 250 V (AC); LCSC Part #: N/A
footprint 61301811821
pins: 1, 2, 3, 4, 5, 6, 7, 8, 9, 10, 11, 12, 13, 14, 15, 16, 17, 18

## 61301821821
designator J?, comment 3A, 250 V (AC)
WR-PHD Socket Header, THT, pitch 2.54mm, Dual Row, Vertical, 18p; Manufacturer Part Number: 61301821821; Manufacturer: Wurth Elektronik; Pin Number: 18; Working Voltage: 250VAC; Withstanding Voltage: 500VAC; Contact Resistance: 20mOhm; ComponentLink1Description: Datasheet; ComponentLink1URL: https://www.we-online.com/catalog/datasheet/61301821821.pdf; Pitch: 2.54mm; Packaging: Tray; Gender: Socket Header; Rated Current: 3A; Row Number: Dual; Orientation: Vertical; Supplier 1 URL: N/A; Supplier 2 URL: N/A; Supplier 3 URL: https://www.thegioiic.com/hang-rao-cai-doi-2-54mm-18-chan-2-hang-cao-11-8mm-xuyen-lo; Mount: THT; Operating Temperature Max: + 85 C; Operating Temperature Min: - 25 C; Supplier 1: Mouser; Supplier 1 Part Number: N/A; Supplier 2: Digi-Key; Supplier 2 Part Number: N/A; Supplier 3: thegioiic; Supplier 3 Part Number: N/A; Value: 3A, 250 V (AC); LCSC Part #: N/A
footprint 61301821821
pins: 1, 2, 3, 4, 5, 6, 7, 8, 9, 10, 11, 12, 13, 14, 15, 16, 17, 18

## 61302011821
designator J?, comment 3A, 250 V (AC)
WR-PHD Socket Header, THT, pitch 2.54mm, Single Row, Vertical, 20p; Manufacturer Part Number: 61302011821; Manufacturer: Wurth Elektronik; Pin Number: 20; Working Voltage: 250VAC; Withstanding Voltage: 500VAC; Contact Resistance: 20mOhm; ComponentLink1Description: Datasheet; ComponentLink1URL: https://www.we-online.com/catalog/datasheet/61302011821.pdf; Pitch: 2.54mm; Packaging: Tray; Gender: Socket Header; Rated Current: 3A; Row Number: Single; Orientation: Vertical; Supplier 1 URL: https://www.mouser.vn/ProductDetail/Wurth-Elektronik/61302011821?qs=iLbezkQI%252Bsj8WCQQzMTU0A%3D%3D; Supplier 2 URL: N/A; Supplier 3 URL: https://www.thegioiic.com/hang-rao-cai-don-2-54mm-20-chan-1-hang-cao-11-8mm-xuyen-lo; Mount: THT; Operating Temperature Max: + 85 C; Operating Temperature Min: - 25 C; Supplier 1: Mouser; Supplier 1 Part Number: 710-61302011821; Supplier 2: Digi-Key; Supplier 2 Part Number: N/A; Supplier 3: thegioiic; Supplier 3 Part Number: N/A; Value: 3A, 250 V (AC); LCSC Part #: N/A
footprint 61302011821
pins: 1, 2, 3, 4, 5, 6, 7, 8, 9, 10, 11, 12, 13, 14, 15, 16, 17, 18, 19, 20

## 61302015721
designator J?, comment 3A, 250 V (AC)
WR-PHD Socket Header, THT, pitch 2.54mm, Single Row, Vertical, 20p; Manufacturer Part Number: 61302015721; Manufacturer: Wurth Elektronik; Pin Number: 20; Working Voltage: 250VAC; Withstanding Voltage: 500VAC; Contact Resistance: 20mOhm; ComponentLink1Description: Datasheet; ComponentLink1URL: https://www.we-online.com/catalog/datasheet/61302015721.pdf; Pitch: 2.54mm; Packaging: Tube; Gender: Socket Header; Rated Current: 3A; Row Number: Single; Orientation: Vertical; Supplier 1 URL: N/A; Supplier 2 URL: N/A; Supplier 3 URL: N/A; Mount: THT; Operating Temperature Max: + 85 C; Operating Temperature Min: - 25 C; Supplier 1: Mouser; Supplier 1 Part Number: N/A; Supplier 2: Digi-Key; Supplier 2 Part Number: N/A; Supplier 3: thegioiic; Supplier 3 Part Number: N/A; Value: 3A, 250 V (AC); LCSC Part #: N/A
footprint 61302015721
pins: 1, 2, 3, 4, 5, 6, 7, 8, 9, 10, 11, 12, 13, 14, 15, 16, 17, 18, 19, 20

## 61302021821
designator J?, comment 3A, 250 V (AC)
WR-PHD Socket Header, THT, pitch 2.54mm, Dual Row, Vertical, 20p; Manufacturer Part Number: 61302021821; Manufacturer: Wurth Elektronik; Pin Number: 20; Working Voltage: 250VAC; Withstanding Voltage: 500VAC; Contact Resistance: 20mOhm; ComponentLink1Description: Datasheet; ComponentLink1URL: https://www.we-online.com/catalog/datasheet/61302021821.pdf; Pitch: 2.54mm; Packaging: Tray; Gender: Socket Header; Rated Current: 3A; Row Number: Dual; Orientation: Vertical; Supplier 1 URL: https://www.mouser.vn/ProductDetail/Wurth-Elektronik/61302021821?qs=iLbezkQI%252BsjSDuq0XahM%2Fw%3D%3D; Supplier 2 URL: N/A; Supplier 3 URL: https://www.thegioiic.com/hang-rao-cai-doi-2-54mm-20-chan-2-hang-cao-11-8mm-xuyen-lo; Mount: THT; Operating Temperature Max: + 85 C; Operating Temperature Min: - 25 C; Supplier 1: Mouser; Supplier 1 Part Number: 710-61302021821; Supplier 2: Digi-Key; Supplier 2 Part Number: N/A; Supplier 3: thegioiic; Supplier 3 Part Number: N/A; Value: 3A, 250 V (AC); LCSC Part #: N/A
footprint 61302021821
pins: 1, 2, 3, 4, 5, 6, 7, 8, 9, 10, 11, 12, 13, 14, 15, 16, 17, 18, 19, 20

## 61302025721
designator J?, comment 3A, 250 V (AC)
WR-PHD Socket Header, THT, pitch 2.54mm, Dual Row, Vertical, 20p; Manufacturer Part Number: 61302025721; Manufacturer: Wurth Elektronik; Pin Number: 20; Working Voltage: 250VAC; Withstanding Voltage: 500VAC; Contact Resistance: 20mOhm; ComponentLink1Description: Datasheet; ComponentLink1URL: https://www.we-online.com/catalog/datasheet/61302025721.pdf; Pitch: 2.54mm; Packaging: Tube; Gender: Socket Header; Rated Current: 3A; Row Number: Dual; Orientation: Vertical; Supplier 1 URL: N/A; Supplier 2 URL: N/A; Supplier 3 URL: N/A; Mount: THT; Operating Temperature Max: + 85 C; Operating Temperature Min: - 25 C; Supplier 1: Mouser; Supplier 1 Part Number: N/A; Supplier 2: Digi-Key; Supplier 2 Part Number: N/A; Supplier 3: thegioiic; Supplier 3 Part Number: N/A; Value: 3A, 250 V (AC); LCSC Part #: N/A
footprint 61302025721
pins: 1, 2, 3, 4, 5, 6, 7, 8, 9, 10, 11, 12, 13, 14, 15, 16, 17, 18, 19, 20

## 61302211821
designator J?, comment 3A, 250 V (AC)
WR-PHD Socket Header, THT, pitch 2.54mm, Single Row, Vertical, 22p; Manufacturer Part Number: 61302211821; Manufacturer: Wurth Elektronik; Pin Number: 22; Working Voltage: 250VAC; Withstanding Voltage: 500VAC; Contact Resistance: 20mOhm; ComponentLink1Description: Datasheet; ComponentLink1URL: https://www.we-online.com/catalog/datasheet/61302211821.pdf; Pitch: 2.54mm; Packaging: Tray; Gender: Socket Header; Rated Current: 3A; Row Number: Single; Orientation: Vertical; Supplier 1 URL: N/A; Supplier 2 URL: N/A; Supplier 3 URL: N/A; Mount: THT; Operating Temperature Max: + 85 C; Operating Temperature Min: - 25 C; Supplier 1: Mouser; Supplier 1 Part Number: N/A; Supplier 2: Digi-Key; Supplier 2 Part Number: N/A; Supplier 3: thegioiic; Supplier 3 Part Number: N/A; Value: 3A, 250 V (AC); LCSC Part #: N/A
footprint 61302211821
pins: 1, 2, 3, 4, 5, 6, 7, 8, 9, 10, 11, 12, 13, 14, 15, 16, 17, 18, 19, 20, 21, 22

## 61302221821
designator J?, comment 3A, 250 V (AC)
WR-PHD Socket Header, THT, pitch 2.54mm, Dual Row, Vertical, 22p; Manufacturer Part Number: 61302221821; Manufacturer: Wurth Elektronik; Pin Number: 22; Working Voltage: 250VAC; Withstanding Voltage: 500VAC; Contact Resistance: 20mOhm; ComponentLink1Description: Datasheet; ComponentLink1URL: https://www.we-online.com/catalog/datasheet/61302221821.pdf; Pitch: 2.54mm; Packaging: Tray; Gender: Socket Header; Rated Current: 3A; Row Number: Dual; Orientation: Vertical; Supplier 1 URL: N/A; Supplier 2 URL: N/A; Supplier 3 URL: https://www.thegioiic.com/hang-rao-cai-doi-2-54mm-22-chan-2-hang-cao-11-8mm-xuyen-lo; Mount: THT; Operating Temperature Max: + 85 C; Operating Temperature Min: - 25 C; Supplier 1: Mouser; Supplier 1 Part Number: N/A; Supplier 2: Digi-Key; Supplier 2 Part Number: N/A; Supplier 3: thegioiic; Supplier 3 Part Number: N/A; Value: 3A, 250 V (AC); LCSC Part #: N/A
footprint 61302221821
pins: 1, 2, 3, 4, 5, 6, 7, 8, 9, 10, 11, 12, 13, 14, 15, 16, 17, 18, 19, 20, 21, 22

## 61302411821
designator J?, comment 3A, 250 V (AC)
WR-PHD Socket Header, THT, pitch 2.54mm, Single Row, Vertical, 24p; Manufacturer Part Number: 61302411821; Manufacturer: Wurth Elektronik; Pin Number: 24; Working Voltage: 250VAC; Withstanding Voltage: 500VAC; Contact Resistance: 20mOhm; ComponentLink1Description: Datasheet; ComponentLink1URL: https://www.we-online.com/catalog/datasheet/61302411821.pdf; Pitch: 2.54mm; Packaging: Tray; Gender: Socket Header; Rated Current: 3A; Row Number: Single; Orientation: Vertical; Supplier 1 URL: N/A; Supplier 2 URL: N/A; Supplier 3 URL: N/A; Mount: THT; Operating Temperature Max: + 85 C; Operating Temperature Min: - 25 C; Supplier 1: Mouser; Supplier 1 Part Number: N/A; Supplier 2: Digi-Key; Supplier 2 Part Number: N/A; Supplier 3: thegioiic; Supplier 3 Part Number: N/A; Value: 3A, 250 V (AC); LCSC Part #: N/A
footprint 61302411821
pins: 1, 2, 3, 4, 5, 6, 7, 8, 9, 10, 11, 12, 13, 14, 15, 16, 17, 18, 19, 20, 21, 22, 23, 24

## 61302421821
designator J?, comment 3A, 250 V (AC)
WR-PHD Socket Header, THT, pitch 2.54mm, Dual Row, Vertical, 24p; Manufacturer Part Number: 61302421821; Manufacturer: Wurth Elektronik; Pin Number: 24; Working Voltage: 250VAC; Withstanding Voltage: 500VAC; Contact Resistance: 20mOhm; ComponentLink1Description: Datasheet; ComponentLink1URL: https://www.we-online.com/catalog/datasheet/61302421821.pdf; Pitch: 2.54mm; Packaging: Tray; Gender: Socket Header; Rated Current: 3A; Row Number: Dual; Orientation: Vertical; Supplier 1 URL: https://www.mouser.vn/ProductDetail/Wurth-Elektronik/61302421821?qs=iLbezkQI%252BsjojIUnFBiylQ%3D%3D; Supplier 2 URL: N/A; Supplier 3 URL: https://www.thegioiic.com/hang-rao-cai-doi-2-54mm-24-chan-2-hang-cao-11-8mm-xuyen-lo; Mount: THT; Operating Temperature Max: + 85 C; Operating Temperature Min: - 25 C; Supplier 1: Mouser; Supplier 1 Part Number: 710-61302421821; Supplier 2: Digi-Key; Supplier 2 Part Number: N/A; Supplier 3: thegioiic; Supplier 3 Part Number: N/A; Value: 3A, 250 V (AC); LCSC Part #: N/A
footprint 61302421821
pins: 1, 2, 3, 4, 5, 6, 7, 8, 9, 10, 11, 12, 13, 14, 15, 16, 17, 18, 19, 20, 21, 22, 23, 24

## 61302425721
designator J?, comment 3A, 250 V (AC)
WR-PHD Socket Header, THT, pitch 2.54mm, Dual Row, Vertical, 24p; Manufacturer Part Number: 61302425721; Manufacturer: Wurth Elektronik; Pin Number: 24; Working Voltage: 250VAC; Withstanding Voltage: 500VAC; Contact Resistance: 20mOhm; ComponentLink1Description: Datasheet; ComponentLink1URL: https://www.we-online.com/catalog/datasheet/61302425721.pdf; Pitch: 2.54mm; Packaging: Tube; Gender: Socket Header; Rated Current: 3A; Row Number: Dual; Orientation: Vertical; Supplier 1 URL: N/A; Supplier 2 URL: N/A; Supplier 3 URL: N/A; Mount: THT; Operating Temperature Max: + 85 C; Operating Temperature Min: - 25 C; Supplier 1: Mouser; Supplier 1 Part Number: N/A; Supplier 2: Digi-Key; Supplier 2 Part Number: N/A; Supplier 3: thegioiic; Supplier 3 Part Number: N/A; Value: 3A, 250 V (AC); LCSC Part #: N/A
footprint 61302425721
pins: 1, 2, 3, 4, 5, 6, 7, 8, 9, 10, 11, 12, 13, 14, 15, 16, 17, 18, 19, 20, 21, 22, 23, 24

## 61302511821
designator J?, comment 3A, 250 V (AC)
WR-PHD Socket Header, THT, pitch 2.54mm, Single Row, Vertical, 25p; Manufacturer Part Number: 61302511821; Manufacturer: Wurth Elektronik; Pin Number: 25; Working Voltage: 250VAC; Withstanding Voltage: 500VAC; Contact Resistance: 20mOhm; ComponentLink1Description: Datasheet; ComponentLink1URL: https://www.we-online.com/catalog/datasheet/61302511821.pdf; Pitch: 2.54mm; Packaging: Tray; Gender: Socket Header; Rated Current: 3A; Row Number: Single; Orientation: Vertical; Supplier 1 URL: N/A; Supplier 2 URL: N/A; Supplier 3 URL: N/A; Mount: THT; Operating Temperature Max: + 85 C; Operating Temperature Min: - 25 C; Supplier 1: Mouser; Supplier 1 Part Number: N/A; Supplier 2: Digi-Key; Supplier 2 Part Number: N/A; Supplier 3: thegioiic; Supplier 3 Part Number: N/A; Value: 3A, 250 V (AC); LCSC Part #: N/A
footprint 61302511821
pins: 1, 2, 3, 4, 5, 6, 7, 8, 9, 10, 11, 12, 13, 14, 15, 16, 17, 18, 19, 20, 21, 22, 23, 24, 25

## 61302621821
designator J?, comment 3A, 250 V (AC)
WR-PHD Socket Header, THT, pitch 2.54mm, Dual Row, Vertical, 26p; Manufacturer Part Number: PM254-2-13-Z-8.5; Manufacturer: HCTL; Pin Number: 26; Working Voltage: 250VAC; Withstanding Voltage: 500VAC; Contact Resistance: 20mOhm; ComponentLink1Description: Datasheet; ComponentLink1URL: https://www.we-online.com/catalog/datasheet/61302621821.pdf; Pitch: 2.54mm; Packaging: Tray; Gender: Socket Header; Rated Current: 3A; Row Number: Dual; Orientation: Vertical; Supplier 1 URL: https://www.mouser.vn/ProductDetail/Wurth-Elektronik/61302621821?qs=ulEaXIWI0c8u1kgg%252B5OcHA%3D%3D; Supplier 2 URL: N/A; Supplier 3 URL: https://www.thegioiic.com/hang-rao-cai-doi-2-54mm-26-chan-2-hang-cao-11-8mm-xuyen-lo; Mount: THT; Operating Temperature Max: + 85 C; Operating Temperature Min: - 25 C; Supplier 1: Mouser; Supplier 1 Part Number: 710-61302621821; Supplier 2: Digi-Key; Supplier 2 Part Number: N/A; Supplier 3: thegioiic; Supplier 3 Part Number: N/A; Value: 3A, 250 V (AC); LCSC Part #: C2897414
footprint 61302621821
pins: 1, 2, 3, 4, 5, 6, 7, 8, 9, 10, 11, 12, 13, 14, 15, 16, 17, 18, 19, 20, 21, 22, 23, 24, 25, 26

## 61302625721
designator J?, comment 3A, 250 V (AC)
WR-PHD Socket Header, THT, pitch 2.54mm, Dual Row, Vertical, 26p; Manufacturer Part Number: 61302625721; Manufacturer: Wurth Elektronik; Pin Number: 26; Working Voltage: 250VAC; Withstanding Voltage: 500VAC; Contact Resistance: 20mOhm; ComponentLink1Description: Datasheet; ComponentLink1URL: https://www.we-online.com/catalog/datasheet/61302625721.pdf; Pitch: 2.54mm; Packaging: Tube; Gender: Socket Header; Rated Current: 3A; Row Number: Dual; Orientation: Vertical; Supplier 1 URL: N/A; Supplier 2 URL: N/A; Supplier 3 URL: N/A; Mount: THT; Operating Temperature Max: + 85 C; Operating Temperature Min: - 25 C; Supplier 1: Mouser; Supplier 1 Part Number: N/A; Supplier 2: Digi-Key; Supplier 2 Part Number: N/A; Supplier 3: thegioiic; Supplier 3 Part Number: N/A; Value: 3A, 250 V (AC); LCSC Part #: N/A
footprint 61302625721
pins: 1, 2, 3, 4, 5, 6, 7, 8, 9, 10, 11, 12, 13, 14, 15, 16, 17, 18, 19, 20, 21, 22, 23, 24, 25, 26

## 61302821821
designator J?, comment 3A, 250 V (AC)
WR-PHD Socket Header, THT, pitch 2.54mm, Dual Row, Vertical, 28p; Manufacturer Part Number: 61302821821; Manufacturer: Wurth Elektronik; Pin Number: 28; Working Voltage: 250VAC; Withstanding Voltage: 500VAC; Contact Resistance: 20mOhm; ComponentLink1Description: Datasheet; ComponentLink1URL: https://www.we-online.com/catalog/datasheet/61302821821.pdf; Pitch: 2.54mm; Packaging: Tray; Gender: Socket Header; Rated Current: 3A; Row Number: Dual; Orientation: Vertical; Supplier 1 URL: https://www.mouser.vn/ProductDetail/Wurth-Elektronik/61302821821?qs=ulEaXIWI0c9gBSJ93uPFjg%3D%3D; Supplier 2 URL: N/A; Supplier 3 URL: https://www.thegioiic.com/hang-rao-cai-doi-2-54mm-28-chan-2-hang-cao-11-8mm-xuyen-lo; Mount: THT; Operating Temperature Max: + 85 C; Operating Temperature Min: - 25 C; Supplier 1: Mouser; Supplier 1 Part Number: 710-61302821821; Supplier 2: Digi-Key; Supplier 2 Part Number: N/A; Supplier 3: thegioiic; Supplier 3 Part Number: N/A; Value: 3A, 250 V (AC); LCSC Part #: N/A
footprint 61302821821
pins: 1, 2, 3, 4, 5, 6, 7, 8, 9, 10, 11, 12, 13, 14, 15, 16, 17, 18, 19, 20, 21, 22, 23, 24, 25, 26, 27, 28

## 61303021821
designator J?, comment 3A, 250 V (AC)
WR-PHD Socket Header, THT, pitch 2.54mm, Dual Row, Vertical, 30p; Manufacturer Part Number: 61303021821; Manufacturer: Wurth Elektronik; Pin Number: 30; Working Voltage: 250VAC; Withstanding Voltage: 500VAC; Contact Resistance: 20mOhm; ComponentLink1Description: Datasheet; ComponentLink1URL: https://www.we-online.com/catalog/datasheet/61303021821.pdf; Pitch: 2.54mm; Packaging: Tray; Gender: Socket Header; Rated Current: 3A; Row Number: Dual; Orientation: Vertical; Supplier 1 URL: N/A; Supplier 2 URL: N/A; Supplier 3 URL: https://www.thegioiic.com/hang-rao-cai-doi-2-54mm-30-chan-2-hang-cao-11-8mm-xuyen-lo; Mount: THT; Operating Temperature Max: + 85 C; Operating Temperature Min: - 25 C; Supplier 1: Mouser; Supplier 1 Part Number: N/A; Supplier 2: Digi-Key; Supplier 2 Part Number: N/A; Supplier 3: thegioiic; Supplier 3 Part Number: N/A; Value: 3A, 250 V (AC); LCSC Part #: N/A
footprint 61303021821
pins: 1, 2, 3, 4, 5, 6, 7, 8, 9, 10, 11, 12, 13, 14, 15, 16, 17, 18, 19, 20, 21, 22, 23, 24, 25, 26, 27, 28, 29, 30